# Altium footprint library DF13EA-xxDP-1.25V.PcbLib: 1 footprints
Each footprint in its own frame and in the unit in brackets; x right, y up, seen from the top. Pads: shape width x height; smd on the part's side, far side on the other; paste and mask are expansions set on the pad; w line width, h text height; cw(c..) or ccw(c..) is an arc to the next point about the centre after c.
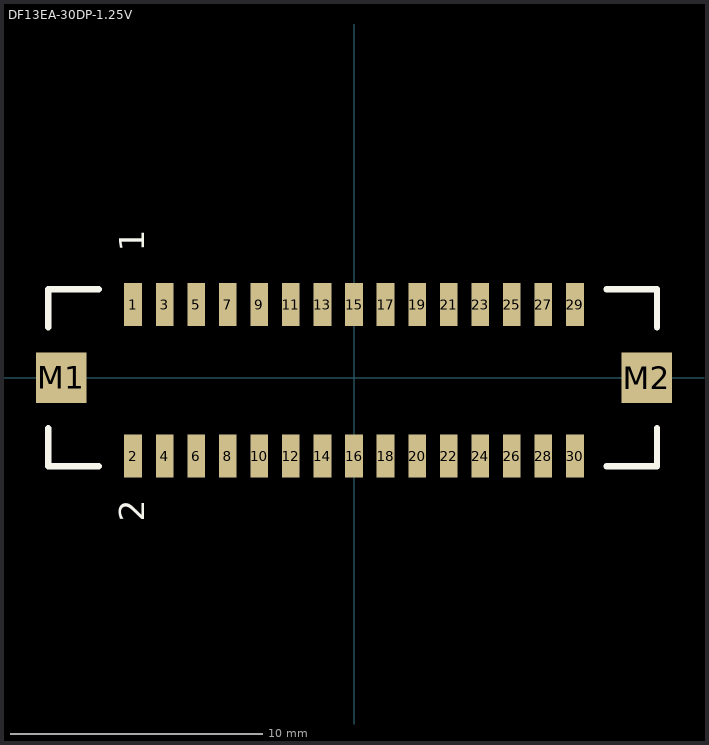
[diagram p0: the footprint, top view; thin cyan lines are the x and y axes]

## DF13EA-30DP-1.25V [mm] "Double Row Straight Pin Header (SMT)"
height 8.8
pads (32):
  rect 0.7x1.7 smd: 1(-8.75,2.9) 2(-8.75,-3.1) 3(-7.5,2.9) 4(-7.5,-3.1) 5(-6.25,2.9) 6(-6.25,-3.1) 7(-5,2.9) 8(-5,-3.1) 9(-3.75,2.9) 10(-3.75,-3.1) 11(-2.5,2.9) 12(-2.5,-3.1) 13(-1.25,2.9) 14(-1.25,-3.1) 15(0,2.9) 16(0,-3.1) 17(1.25,2.9) 18(1.25,-3.1) 19(2.5,2.9) 20(2.5,-3.1) 21(3.75,2.9) 22(3.75,-3.1) 23(5,2.9) 24(5,-3.1) 25(6.25,2.9) 26(6.25,-3.1) 27(7.5,2.9) 28(7.5,-3.1) 29(8.75,2.9) 30(8.75,-3.1)
  rect 2x2 smd: M1(-11.6,0) M2(11.6,0)
Top Overlay:
  lines w0.254: -12.1,-2 -12.1,-3.5 -10.1,-3.5 ; -12.1,2 -12.1,3.5 -10.1,3.5 ; 10,-3.5 12,-3.5 12,-2 ; 10,3.5 12,3.5 12,2
  text "1" at -8.3,5 h1
  text "2" at -8.3,-5.7 h1
3D body "User Library-df13.step": height 4.8, standoff -0.6, extent -12.3,-3.45 12.3,3.45